# Altium schematic symbol library Cristals.SchLib: 6 symbols
Pins are listed as number, name and electrical type; pins without a type are passive.

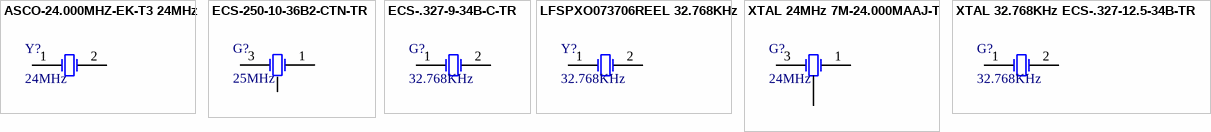
[diagram p0: symbols ASCO-24.000MHZ-EK-T3 24MHz to XTAL 32.768KHz ECS-.327-12.5-34B-TR]

## ASCO-24.000MHZ-EK-T3 24MHz
designator Y?, comment 24MHz
OSC XO 24.000MHZ CMOS SMD; Manufacturer: Abracon; Manufacturer Part Number: ASCO-24.000MHZ-EK-T3; Frequency Stability: ±30 ppm; Operating Supply Voltage: 3.3 V; Load Capacitance: 15 pF; Maximum Symmetry: 60 %; Frequency Aging: ±3 ppm/(1st)Year; Supplier 1: Digi-Key; Stock 1: 39897; Pricing 1: 1=1.62, 10=1.548, 50=1.512, 100=1.296, 500=1.26, 1000=1.062 (USD); Package: 4SMD; Type: Programmable Crystal Oscillator; Standard Frequency: 24 MHz; Output Level: CMOS; Operating Temperature: -20 to 70 °C; Category: SMD Crystal Oscillator; ComponentLink1URL: http://www.abracon.com/Oscillators/ASCO.pdf?src-supplier=Avnet; ComponentLink1Description: http://www.abracon.com/Oscillators/ASCO.pdf?src-supplier=Avnet; Supplier Part Number 1: 535-12073-1-ND; Value: 24MHz
pins: 1 OSC1, 2 OSC2

## ECS-250-10-36B2-CTN-TR
designator G?, comment 25MHz
25 MHz ±10ppm Crystal 10pF 50 Ohms 4-SMD, No Lead; Supplier 1: Digi-Key; Supplier Part Number 1: 50-ECS-250-10-36B2-CTN-TRCT-ND; Value: 25MHz
pins: 1 OSC2, 2 GND, 3 OSC1, 4 GND

## ECS-.327-9-34B-C-TR
designator G?, comment 32.768KHz
32.768 kHz ±10ppm Crystal 9pF 70 kOhms 2-SMD, No Lead; Value: 32.768KHz; Supplier 1: Digi-Key; Supplier Part Number 1: XC1949CT-ND
pins: 1 OSC1, 2 OSC2

## LFSPXO073706REEL 32.768KHz
designator Y?, comment 32.768KHz
Manufacturer: IQD; Manufacturer Part Number: LFSPXO073706REEL; Supplier 1: Digi-Key; Stock 1: 2794; Pricing 1: 1=1.51, 10=1.44, 50=1.407, 100=1.206, 500=1.1725, 1000=0.9883 (USD); ComponentLink1URL: https://www.iqdfrequencyproducts.com/products/pn/LFSPXO073706Reel.pdf?src-supplier=Digi-Key; ComponentLink1Description: https://www.iqdfrequencyproducts.com/products/pn/LFSPXO073706Reel.pdf?src-supplier=Digi-Key; Supplier Part Number 1: 1923-1618-1-ND; Value: 32.768KHz
pins: 1 OSC1, 2 OSC2

## XTAL 24MHz 7M-24.000MAAJ-T
designator G?, comment 24MHz
Crystals 24.000MHz 30ppm -20 +70C 18pF; Manufacturer: TXC; Manufacturer Part Number: 7M-24.000MAAJ-T; Catalog Drawings: 7M Series Top 7M Series Bottom 7M Series Side 7M Series Circuit; EDA / CAD Models: Download from Accelerated Designs; ESR (Equivalent Series Resistance): 60 Ohm; Operating Mode: Fundamental; Online Catalog: 7M Series; Other Names: 887-1130-6; Supplier 1: Digi-Key; Stock 1: 85; Pricing 1: 1=0.91, 10=0.805, 50=0.7524, 100=0.665, 500=0.63, 1000=0.525 (USD); Standard Package: 1; Category: Crystals and Oscillators; Family: Crystals; Series: 7M; Packaging: Digi-Reel®; Type: MHz Crystal; Frequency: 24MHz; Frequency Stability: ±30ppm; Frequency Tolerance: ±30ppm; Load Capacitance: 18pF; Operating Temperature: -20°C ~ 70°C; Mounting Type: Surface Mount; Package / Case: 4-SMD, No Lead (DFN, LCC); Size / Dimension: 0.126" L x 0.098" W (3.20mm x 2.50mm); Height: 0.031" (0.80mm); ComponentLink1URL: http://www.txccrystal.com/images/pdf/number-crystal-basic.pdf?src-supplier=Digi-Key; ComponentLink1Description: http://www.txccrystal.com/images/pdf/number-crystal-basic.pdf?src-supplier=Digi-Key; ComponentLink2URL: http://www.farnell.com/datasheets/1796637.pdf?src-supplier=Element14; ComponentLink2Description: http://www.farnell.com/datasheets/1796637.pdf?src-supplier=Element14; ComponentLink3URL: http://www.mouser.com/ds/2/417/7m-11184.pdf?src-supplier=Mouser; ComponentLink3Description: http://www.mouser.com/ds/2/417/7m-11184.pdf?src-supplier=Mouser; Supplier Part Number 1: 887-1130-1-ND; Value: 24MHz
pins: 1 OSC2, 2 GND, 3 OSC1, 4 GND

## XTAL 32.768KHz ECS-.327-12.5-34B-TR
designator G?, comment 32.768KHz
Crystal 0.032768MHz ±20ppm (Tol) 12.5pF Flexural 70000Ohm 2-Pin Mini-SMD T/R; Manufacturer: ECS International; Manufacturer Part Number: ECS-.327-12.5-34B-TR; Brand: ECS; Case Height: 0.9 mm; Case Length: 3.2 mm; Case Width: 1.5 mm; Supplier 1: Digi-Key; Stock 1: 0; Pricing 1: 1=0.51, 10=0.428, 50=0.385, 100=0.3423, 500=0.3252, 1000=0.2738 (USD); Product Category: Crystals; RoHS: Details; Frequency: 32.768 kHz; Termination Style: SMD/SMT; Package / Case: 3.2 mm x 1.5 mm; Dimensions: 1.5 mm W x 3.2 mm L x 0.9 mm H; Packaging: Reel; Mounting Style: SMD/SMT; Series: ECX34B; Factory Pack Quantity: 3000; Supplier Part Number 1: XC1617CT-ND; Value: 32.768KHz
pins: 1 OSC1, 2 OSC2